# Altium schematic symbol library Infineon BSC030P03NS3 G - 8-PowerTDFN - PMOS.SchLib: 1 symbol
Pins are listed as number, name and electrical type; pins without a type are passive.

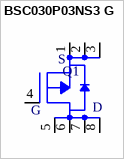
[diagram p0: symbol BSC030P03NS3 G]

## BSC030P03NS3 G
designator Q1, comment INFINEON BSC030P03NS3 G  (value not drawn)
P-Channel 30V 25.4A (Ta), 100A (Tc) 2.5W (Ta), 125W (Tc) Surface Mount PG-TDSON-8; Supplier 1: Digi-Key; Supplier Part Number 1: BSC030P03NS3 GCT-ND
footprint BSC030P03NS3 G (Footprint not found)
pins: 1 S, 2 S "CHASSIS GROUND", 3 S "CHASSIS GROUND", 4 G, 5 D, 6 D, 7 D, 8 D